# Altium footprint library E10_433M.PcbLib: 1 footprints
Each footprint in its own frame and in the unit in brackets; x right, y up, seen from the top. Pads: shape width x height; smd on the part's side, far side on the other; paste and mask are expansions set on the pad; w line width, h text height; cw(c..) or ccw(c..) is an arc to the next point about the centre after c.
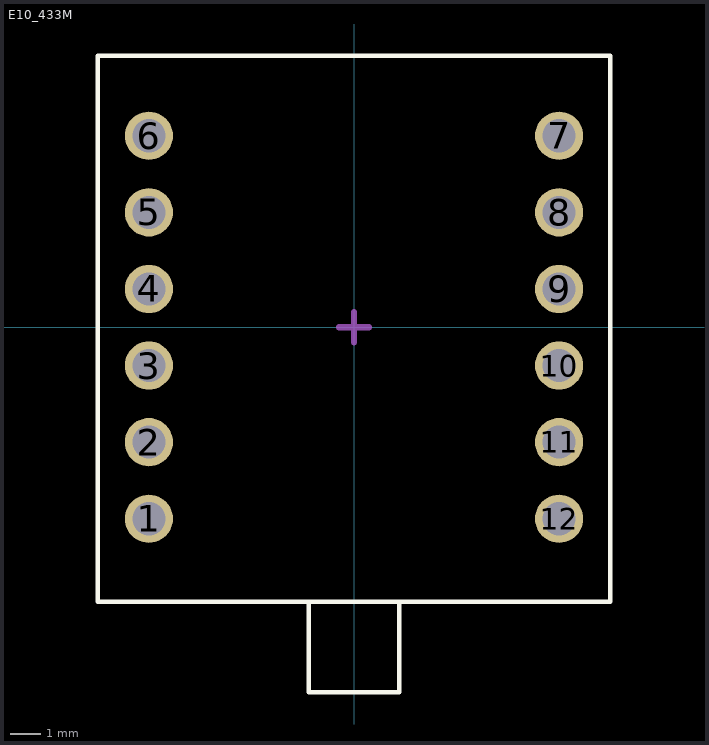
[diagram p0: the footprint, top view; thin cyan lines are the x and y axes]

## E10_433M [mm]
pads (12):
  round 1.6 hole 1.1: 1(-6.8,-6.35) 2(-6.8,-3.81) 3(-6.8,-1.27) 4(-6.8,1.27) 5(-6.8,3.81) 6(-6.8,6.35) 7(6.8,6.35) 8(6.8,3.81) 9(6.8,1.27) 10(6.8,-1.27) 11(6.8,-3.81) 12(6.8,-6.35)
Top Overlay:
  lines w0.153: -8.5,-9.1 8.5,-9.1 8.5,9 -8.5,9 -8.5,-9.1 ; -1.5,-12.1 1.5,-12.1 1.5,-9.1 -1.5,-9.1 -1.5,-12.1
  text "." at -9.447,-6.253 h0.8
Top Assembly:
  lines w0.1: -8.5,-9.1 8.5,-9.1 8.5,9 -8.5,9 -8.5,-9.1 ; -1.5,-12.1 1.5,-12.1 1.5,-9.1 -1.5,-9.1 -1.5,-12.1
  text "'.Designator'" at -4.532,-0.333 h0.8
Mechanical 15:
  lines w0.1: -8.5,-9.1 8.5,-9.1 8.5,9 -8.5,9 -8.5,-9.1
  lines w0.2: -0.5,0 0.5,0 ; 0,-0.5 0,0.5
3D body "E10_433M_SMA.step": height 7.6, standoff -5.88, extent -8.3,-24.87 8.3,8.75